# Altium schematic symbol library Library.SchLib: 692 symbols (part 8 of 11)
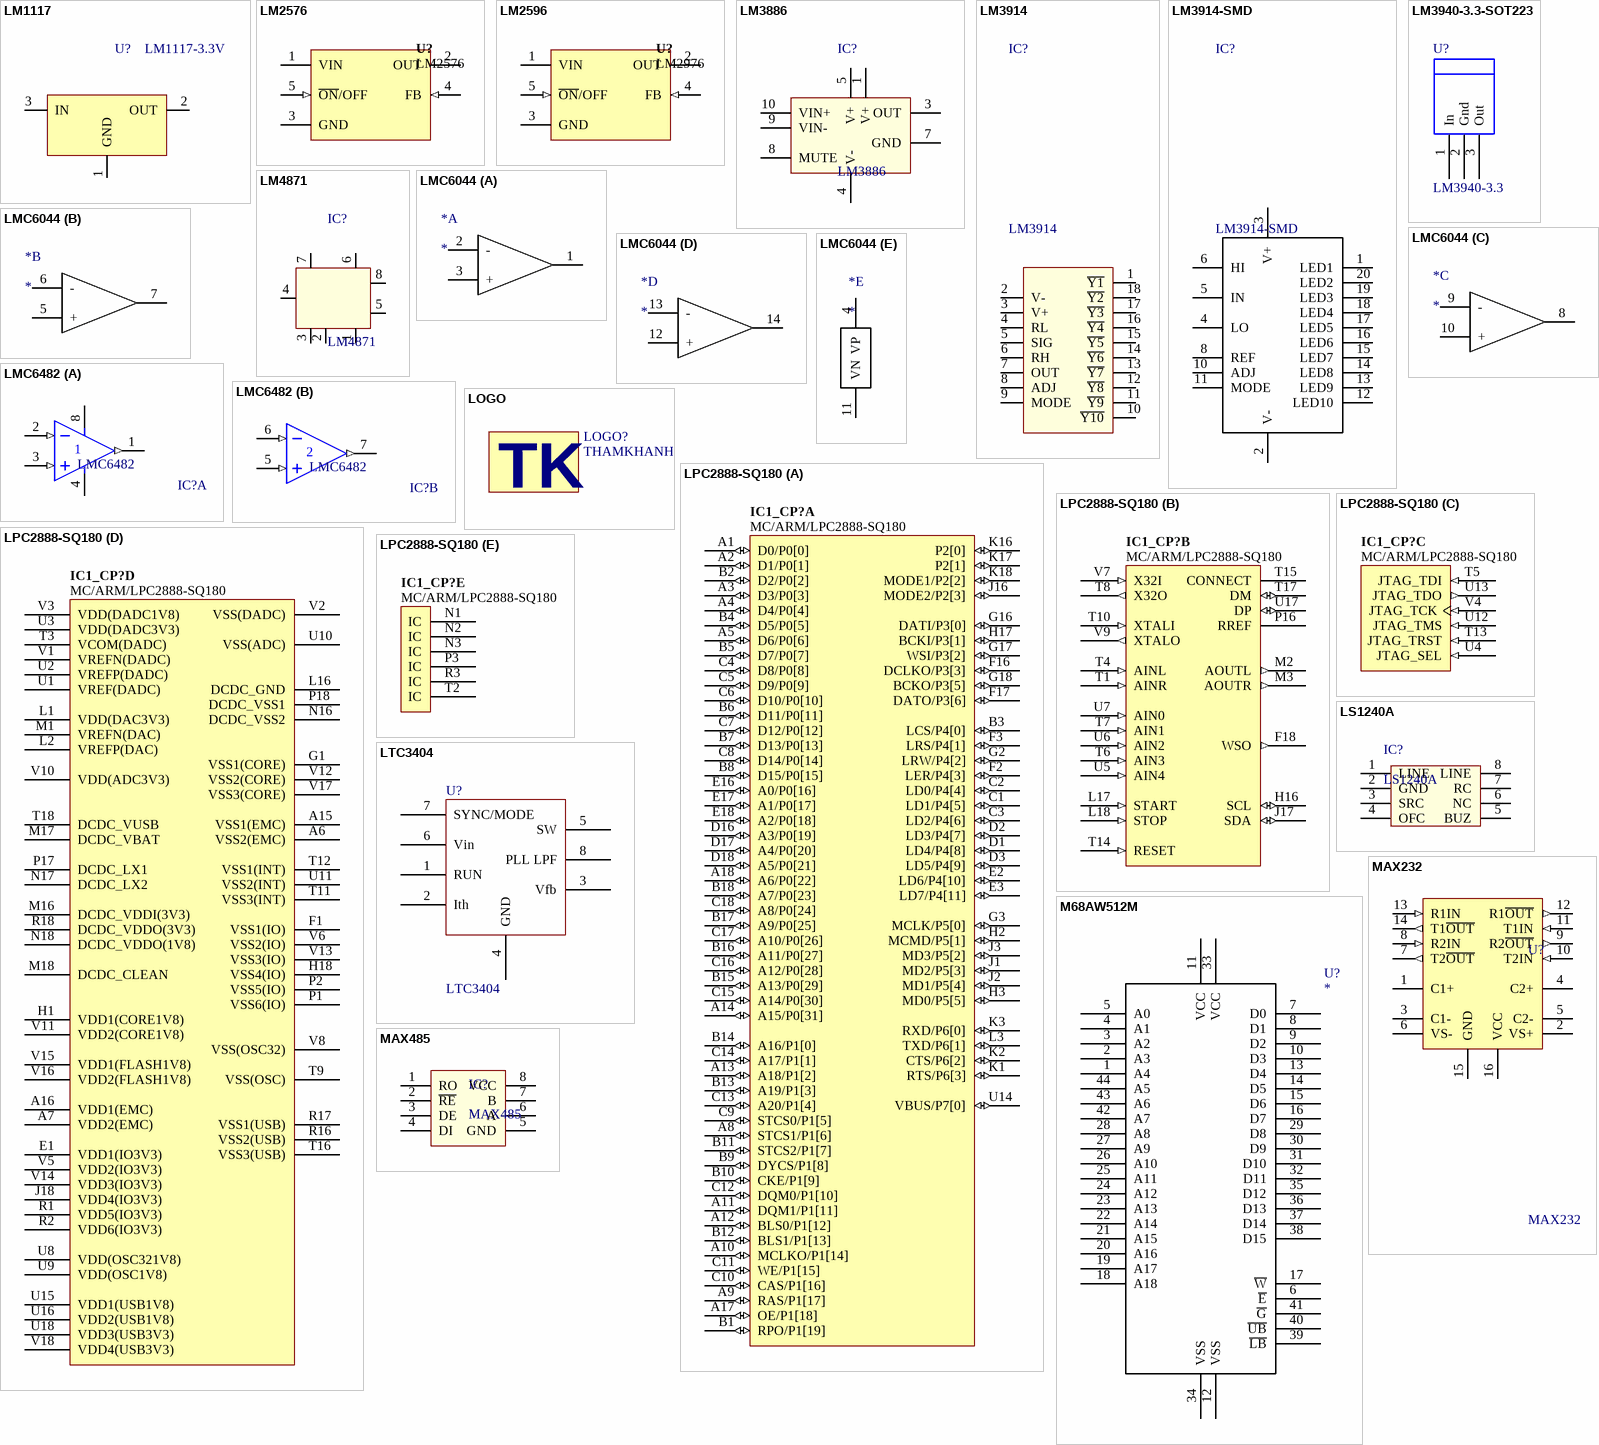
[diagram p53: symbols LM1117 to MAX485]

## LPC2888-SQ180
designator IC1_CP?, comment MC/ARM/LPC2888-SQ180
16/32-bit ARM microcontrollers; 8 kB cache, up to 1 MB flash,  High Speed USB 2.0 device, and SDRAM memory interface; Bit Width: Bits; Max Clock Frequency: Hz; Supply Voltage: mV; Mounting Technology: Surface Mount; Status: Unreleased; Category: IC-MCU
footprint BGA180 (BGA, 180-Leads, Body 10x10mm, Pitch 0.5mm)
part A pins: A1 D0/P0[0] (io) "external memory data bus, low byte (I/O); GPIO pin", A2 D1/P0[1] (io) "external memory data bus, low byte (I/O); GPIO pin", A3 D3/P0[3] (io) "external memory data bus, low byte (I/O); GPIO pin", A4 D4/P0[4] (io) "external memory data bus, low byte (I/O); GPIO pin", A5 D6/P0[6] (io) "external memory data bus, low byte (I/O); GPIO pin", A8 STCS1/P1[6] (io) "chip select, active LOW for static memory bank 1; GPIO pin", A9 RAS/P1[17] (io) "row address strobe, active LOW for SDRAM; GPIO pin", A10 MCLKO/P1[14] (io) "clock for SDRAM and SyncFlash memory; GPIO pin", A11 DQM1/P1[11] (io) "data mask output for D[15:8], active HIGH for SDRAM; GPIO pin", A12 BLS0/P1[12] (io) "byte lane select for D[7:0], active LOW for static memory; GPIO pin", A13 A18/P1[2] (io) "address bus for static memory; GPIO pins", A14 A15/P0[31] (io) "address bus for static memory; GPIO pins", A17 OE/P1[18] (io) "output enable, active LOW for static memory; GPIO pin", A18 A6/P0[22] (io) "address bus for SDRAM and static memory; GPIO pins", B1 RPO/P1[19] (io) "reset power down, active LOW for SyncFlash memory; GPIO pin", B2 D2/P0[2] (io) "external memory data bus, low byte (I/O); GPIO pin", B3 LCS/P4[0] (io) "chip select to LCD device, programmable polarity; 5 V tolerant GPIO pin", B4 D5/P0[5] (io) "external memory data bus, low byte (I/O); GPIO pin", B5 D7/P0[7] (io) "external memory data bus, low byte (I/O); GPIO pin", B6 D11/P0[11] (io) "external memory data bus, high byte (I/O); GPIO pin", B7 D13/P0[13] (io) "external memory data bus, high byte (I/O); GPIO pin", B8 D15/P0[15] (io) "external memory data bus, high byte (I/O); GPIO pin", B9 DYCS/P1[8] (io) "chip select, active LOW for SDRAM; GPIO pin", B10 CKE/P1[9] (io) "clock enable; active HIGH for SDRAM; GPIO pin", B11 STCS2/P1[7] (io) "chip select, active LOW for static memory bank 2; GPIO pin", B12 BLS1/P1[13] (io) "byte lane select for D[15:8], active LOW for static memory; GPIO pin", B13 A19/P1[3] (io) "address bus for static memory; GPIO pins", B14 A16/P1[0] (io) "address bus for static memory; GPIO pins", B15 A13/P0[29] (io) "address bus for SDRAM and static memory; GPIO pins", B16 A11/P0[27] (io) "address bus for SDRAM and static memory; GPIO pins", B17 A9/P0[25] (io) "address bus for SDRAM and static memory; GPIO pins", B18 A7/P0[23] (io) "address bus for SDRAM and static memory; GPIO pins", C1 LD1/P4[5] (io) "data bus to/from LCD (I/O) or 5 V tolerant GPIO pin", C2 LD0/P4[4] (io) "data bus to/from LCD (I/O) or 5 V tolerant GPIO pin", C3 LD2/P4[6] (io) "data bus to/from LCD (I/O) or 5 V tolerant GPIO pin", C4 D8/P0[8] (io) "external memory data bus, high byte (I/O); GPIO pin", C5 D9/P0[9] (io) "external memory data bus, high byte (I/O); GPIO pin", C6 D10/P0[10] (io) "external memory data bus, high byte (I/O); GPIO pin", C7 D12/P0[12] (io) "external memory data bus, high byte (I/O); GPIO pin", C8 D14/P0[14] (io) "external memory data bus, high byte (I/O); GPIO pin", C9 STCS0/P1[5] (io) "chip select, active LOW for static memory bank 0; GPIO pin", C10 CAS/P1[16] (io) "column address strobe, active LOW for SDRAM; GPIO pin", C11 WE/P1[15] (io) "write enable, active LOW for SDRAM and static memory; GPIO pin", C12 DQM0/P1[10] (io) "data mask output for D[7:0], active HIGH for SDRAM; GPIO pin", C13 A20/P1[4] (io) "address bus for static memory; GPIO pins", C14 A17/P1[1] (io) "address bus for static memory; GPIO pins", C15 A14/P0[30] (io) "address bus for SDRAM and static memory; GPIO pins", C16 A12/P0[28] (io) "address bus for SDRAM and static memory; GPIO pins", C17 A10/P0[26] (io) "address bus for SDRAM and static memory; GPIO pins", C18 A8/P0[24] (io) "address bus for SDRAM and static memory; GPIO pins", D1 LD4/P4[8] (io) "data bus to/from LCD (I/O) or 5 V tolerant GPIO pin", D2 LD3/P4[7] (io) "data bus to/from LCD (I/O) or 5 V tolerant GPIO pin", D3 LD5/P4[9] (io) "data bus to/from LCD (I/O) or 5 V tolerant GPIO pin", D16 A3/P0[19] (io) "address bus for SDRAM and static memory; GPIO pins", D17 A4/P0[20] (io) "address bus for SDRAM and static memory; GPIO pins", D18 A5/P0[21] (io) "address bus for SDRAM and static memory; GPIO pins", E2 LD6/P4[10] (io) "data bus to/from LCD (I/O) or 5 V tolerant GPIO pin", E3 LD7/P4[11] (io) "data bus to/from LCD (I/O) or 5 V tolerant GPIO pin", E16 A0/P0[16] (io) "address bus for SDRAM and static memory; GPIO pins", E17 A1/P0[17] (io) "address bus for SDRAM and static memory; GPIO pins", E18 A2/P0[18] (io) "address bus for SDRAM and static memory; GPIO pins", F2 LER/P4[3] (io) "6800 E or 8080 RDor 5 V tolerant GPIO pin", F3 LRS/P4[1] (io) "‘HIGH?data register select, ‘LOW?instruction register select, or 5 V tolerant GPIO pin", F16 DCLKO/P3[3] (io) "256 ×clock output; 5 V tolerant GPIO pin", F17 DATO/P3[6] (io) "DAO serial data output; 5 V tolerant GPIO pin", G2 LRW/P4[2] (io) "6800 W/Ror 8080 WRor 5 V tolerant GPIO pin", G3 MCLK/P5[0] (io) "MCI clock output; 5 V tolerant GPIO pin", G16 DATI/P3[0] (io) "DAI serial data input; 5 V tolerant GPIO pin", G17 WSI/P3[2] (io) "DAI word select; 5 V tolerant GPIO pin", G18 BCKO/P3[5] (io) "DAO bit clock; 5 V tolerant GPIO pin", H2 MCMD/P5[1] (io) "command (I/O); 5 V tolerant GPIO pin", H3 MD0/P5[5] (io) "data bus from/to MCI/SD card (I/O); 5 V tolerant GPIO pin", H17 BCKI/P3[1] (io) "DAI bit clock; 5 V tolerant GPIO pin", J1 MD2/P5[3] (io) "data bus from/to MCI/SD card (I/O); 5 V tolerant GPIO pin", J2 MD1/P5[4] (io) "data bus from/to MCI/SD card (I/O); 5 V tolerant GPIO pin", J3 MD3/P5[2] (io) "data bus from/to MCI/SD card (I/O); 5 V tolerant GPIO pin", J16 MODE2/P2[3] (io) "start up MODE PIN2 (pull down); 5 V tolerant GPIO pin", K1 RTS/P6[3] (io) "request to send or receive flow control, active LOW; 5 V tolerant GPIO pin", K2 CTS/P6[2] (io) "clear to send or transmit flow control, active LOW; 5 V tolerant GPIO pin", K3 RXD/P6[0] (io) "serial input; 5 V tolerant GPIO pin", K16 P2[0] (io) "5 V tolerant GPIO pin", K17 P2[1] (io) "5 V tolerant GPIO pin", K18 MODE1/P2[2] (io) "start up MODE PIN1 (pull down); 5 V tolerant GPIO pin", L3 TXD/P6[1] (io) "serial output; 5 V tolerant GPIO pin", U14 VBUS/P7[0] (io) "USB supply detection; 5 V tolerant GPIO pin"
part B pins: F18 WSO (out) "DAO word select; 5 V tolerant pin", H16 SCL (io) "serial clock (input/open-drain output); 5 V tolerant pin", J17 SDA (io) "serial data (input/open-drain output); 5 V tolerant pin", L17 START (in) "DC-to-DC converter activation", L18 STOP (in) "DC-to-DC converter deactivation", M2 AOUTL (out) "DAC L analog out", M3 AOUTR (out) "DAC R analog out", P16 RREF (power) "transceiver reference; connect an external 12 k.1? resistor to ground", T1 AINR (in) "analog R input channel", T4 AINL (in) "analog L input channel", T6 AIN3 (in) "multiplexed analog input", T7 AIN1 (in) "multiplexed analog input", T8 X32O (out) "32.768 kHz oscillator output", T10 XTALI (in) "main oscillator input", T14 RESET (in) "master reset, active LOW; 5 V tolerant pin", T15 CONNECT (power) "used for signalling speed capability; for high speed USB, connect an external 1.5 k.resistor to 3.3 V", T17 DM (io) "negative USB data line", U5 AIN4 (in) "multiplexed analog input", U6 AIN2 (in) "multiplexed analog input", U7 AIN0 (in) "multiplexed analog input", U17 DP (io) "positive USB data line", V7 X32I (in) "32.768 kHz oscillator input", V9 XTALO (out) "main oscillator output"
part C pins: T5 JTAG_TDI (in) "JTAG data input (pull-up); 5 V tolerant pin", T13 JTAG_TRST (in) "JTAG reset input (pull-down); 5 V tolerant pin", U4 JTAG_SEL (in) "JTAG selection (pull-down); 5 V tolerant pin", U12 JTAG_TMS (in) "JTAG mode select input (pull-up); 5 V tolerant pin", U13 JTAG_TDO (out) "JTAG data output; 5 V tolerant pin", V4 JTAG_TCK (in) "JTAG reset input (pull-down); 5 V tolerant pin"
part D pins: A6 VSS2(EMC) (power) "ground for external memory controller", A7 VDD2(EMC) (power) "1.8 V or 3.3 V for external memory controller", A15 VSS1(EMC) (power) "ground for external memory controller", A16 VDD1(EMC) (power) "1.8 V or 3.3 V for external memory controller", E1 VDD1(IO3V3) (power) "3.3 V for peripherals", F1 VSS1(IO) (power) "ground for peripherals", G1 VSS1(CORE) (power) "ground for internal RAM and ROM", H1 VDD1(CORE1V8) (power) "1.8 V for internal RAM and ROM", H18 VSS4(IO) (power) "ground for peripherals", J18 VDD4(IO3V3) (power) "3.3 V for peripherals", L1 VDD(DAC3V3) (power) "3.3 V for DAC", L2 VREFP(DAC) (power) "positive reference voltage", L16 DCDC_GND (power) "DC-to-DC converter main ground and substrate", M1 VREFN(DAC) (power) "negative reference voltage", M16 DCDC_VDDI(3V3) (power) "DC/DC1 3.3 V input voltage", M17 DCDC_VBAT (power) "connect to battery +", M18 DCDC_CLEAN (power) "reference circuit ground, not connected to substrate", N16 DCDC_VSS2 (power) "ground for DC/DC2, not connected to substrate", N17 DCDC_LX2 (power) "connect to external coil for DC/DC2", N18 DCDC_VDDO(1V8) (power) "DC/DC2 1.8 V output voltage", P1 VSS6(IO) (power) "ground for peripherals", P2 VSS5(IO) (power) "ground for peripherals", P17 DCDC_LX1 (power) "connect to external coil for DC/DC1", P18 DCDC_VSS1 (power) "ground for DC/DC1, not connected to substrate", R1 VDD5(IO3V3) (power) "3.3 V for peripherals", R2 VDD6(IO3V3) (power) "3.3 V for peripherals", R16 VSS2(USB) (power) "analog ground", R17 VSS1(USB) (power) "analog ground", R18 DCDC_VDDO(3V3) (power) "DC/DC1 3.3 V output voltage", T3 VCOM(DADC) (power) "ADC common reference voltage and analog output reference voltage combined on-chip", T9 VSS(OSC) (power) "ground", T11 VSS3(INT) (power) "ground for other internal blocks", T12 VSS1(INT) (power) "ground for other internal blocks", T16 VSS3(USB) (power) "analog ground", T18 DCDC_VUSB (power) "connect to +5 V pin of USB connector", U1 VREF(DADC) (power) "ADC reference voltage", U2 VREFP(DADC) (power) "ADC positive reference voltage", U3 VDD(DADC3V3) (power) "3.3 V for dual ADC", U8 VDD(OSC321V8) (power) "1.8 V", U9 VDD(OSC1V8) (power) "1.8 V", U10 VSS(ADC) (power) "ground", U11 VSS2(INT) (power) "ground for other internal blocks", U15 VDD1(USB1V8) (power) "analog 1.8 V", U16 VDD2(USB1V8) (power) "analog 1.8 V", U18 VDD3(USB3V3) (power) "analog 3.3 V", V1 VREFN(DADC) (power) "ADC negative reference voltage", V2 VSS(DADC) (power) "ground for dual ADC", V3 VDD(DADC1V8) (power) "1.8 V for dual ADC", V5 VDD2(IO3V3) (power) "3.3 V for peripherals", V6 VSS2(IO) (power) "ground for peripherals", V8 VSS(OSC32) (power) "ground", V10 VDD(ADC3V3) (power) "3.3 V analog supply and reference voltage", V11 VDD2(CORE1V8) (power) "1.8 V for core", V12 VSS2(CORE) (power) "ground for core", V13 VSS3(IO) (power) "ground for peripherals", V14 VDD3(IO3V3) (power) "3.3 V for peripherals", V15 VDD1(FLASH1V8) (power) "1.8 V for internal flash memory", V16 VDD2(FLASH1V8) (power) "1.8 V for internal flash memory", V17 VSS3(CORE) (power) "ground for core, substrate, flash", V18 VDD4(USB3V3) (power) "analog 3.3 V"
part E pins: N1 IC "This pin connected internally and must be left unconnected in an application.", N2 IC "This pin connected internally and must be left unconnected in an application.", N3 IC "This pin connected internally and must be left unconnected in an application.", P3 IC "This pin connected internally and must be left unconnected in an application.", R3 IC "This pin connected internally and must be left unconnected in an application.", T2 IC "This pin connected internally and must be left unconnected in an application."

## LS1240A
designator IC?
Electronic Two-Tone Ringer
footprint DIP8
footprint SO8
pins: 1 LINE, 2 GND, 3 SRC, 4 OFC, 5 BUZ, 6 NC, 7 RC, 8 LINE

## LTC3404
designator U?
SYNCHRONOUS SWITCHER CONTROLLER; Supplier 1: Digi-Key; Supplier Part Number 1: LTC3404EMS8#PBF-ND
footprint MSOP8 (MSOP, 8-Leads, Body 3.00x3.00mm, Pitch 0.65mm, IPC High Density)
footprint DIP8
pins: 1 RUN, 2 Ith, 3 Vfb, 4 GND, 5 SW, 6 Vin, 7 SYNC/MODE, 8 PLL LPF

## M68AW512M
designator U?
512K X 16 ASYNCHRONUS SRAM ST MICROELECTRONICS
footprint TSOP44-II (TSOP-II, 44-Leads, Body 18.41x10.16mm, Pitch 0.80mm, IPC High Density)
pins: 1 A4, 2 A3, 3 A2, 4 A1, 5 A0, 6 ~{E}, 7 D0, 8 D1, 9 D2, 10 D3, 11 VCC, 12 VSS, 13 D4, 14 D5, 15 D6, 16 D7, 17 ~{W}, 18 A18, 19 A17, 20 A16, 21 A15, 22 A14, 23 A13, 24 A12, 25 A11, 26 A10, 27 A9, 28 A8, 29 D8, 30 D9, 31 D10, 32 D11, 33 VCC, 34 VSS, 35 D12, 36 D13, 37 D14, 38 D15, 39 ~{LB}, 40 ~{UB}, 41 ~{G}, 42 A7, 43 A6, 44 A5

## MAX232
designator U?
RS232 LEVEL SHIFTER; Manufacturer Part Number: MAX232DR; Manufacturer: Texas Instruments; Number of Drivers/Receivers: 2/2; Voltage - Supply: 4.5 V ~ 5.5 V; Supplier 1: Digi-Key; Supplier Part Number 1: 296-14619-1-ND; RoHS: RoHS Compliant; Packaging: Cut Tape (CT); Protocol: RS232; Type: Transceiver; Supplier Part Number: 296-14619-1-ND; Supplier: Digi-Key; Category: Integrated Circuits (ICs); Package / Case: 16-SOIC (3.9mm Width)
footprint SO16 (SOIC, 16-Leads, Body 9.90x3.91mm, Pitch 1.27mm, IPC Medium Density)
footprint DIP16
pins: 1 C1+, 2 VS+ (power), 3 C1-, 4 C2+, 5 C2-, 6 VS- (power), 7 T2~{OUT} (out), 8 R2IN (in), 9 R2~{OUT} (out), 10 T2IN (in), 11 T1IN (in), 12 R1~{OUT} (out), 13 R1IN (in), 14 T1~{OUT} (out), 15 GND (power), 16 VCC (power)

## MAX485
designator IC?
RS232 - RS485 (Same sn75176)
footprint DIP8
footprint SO8 (SOIC, 8-Leads, Body 4.9x3.9mm, Pitch 1.27mm, IPC High Density)
pins: 1 RO "Receiver Output", 2 ~{RE} "Receiver Enable Output", 3 DE "Driver Enable Output", 4 DI "Driver Input", 5 GND, 6 A "RI & NoneDO", 7 B "NoneDI", 8 VCC

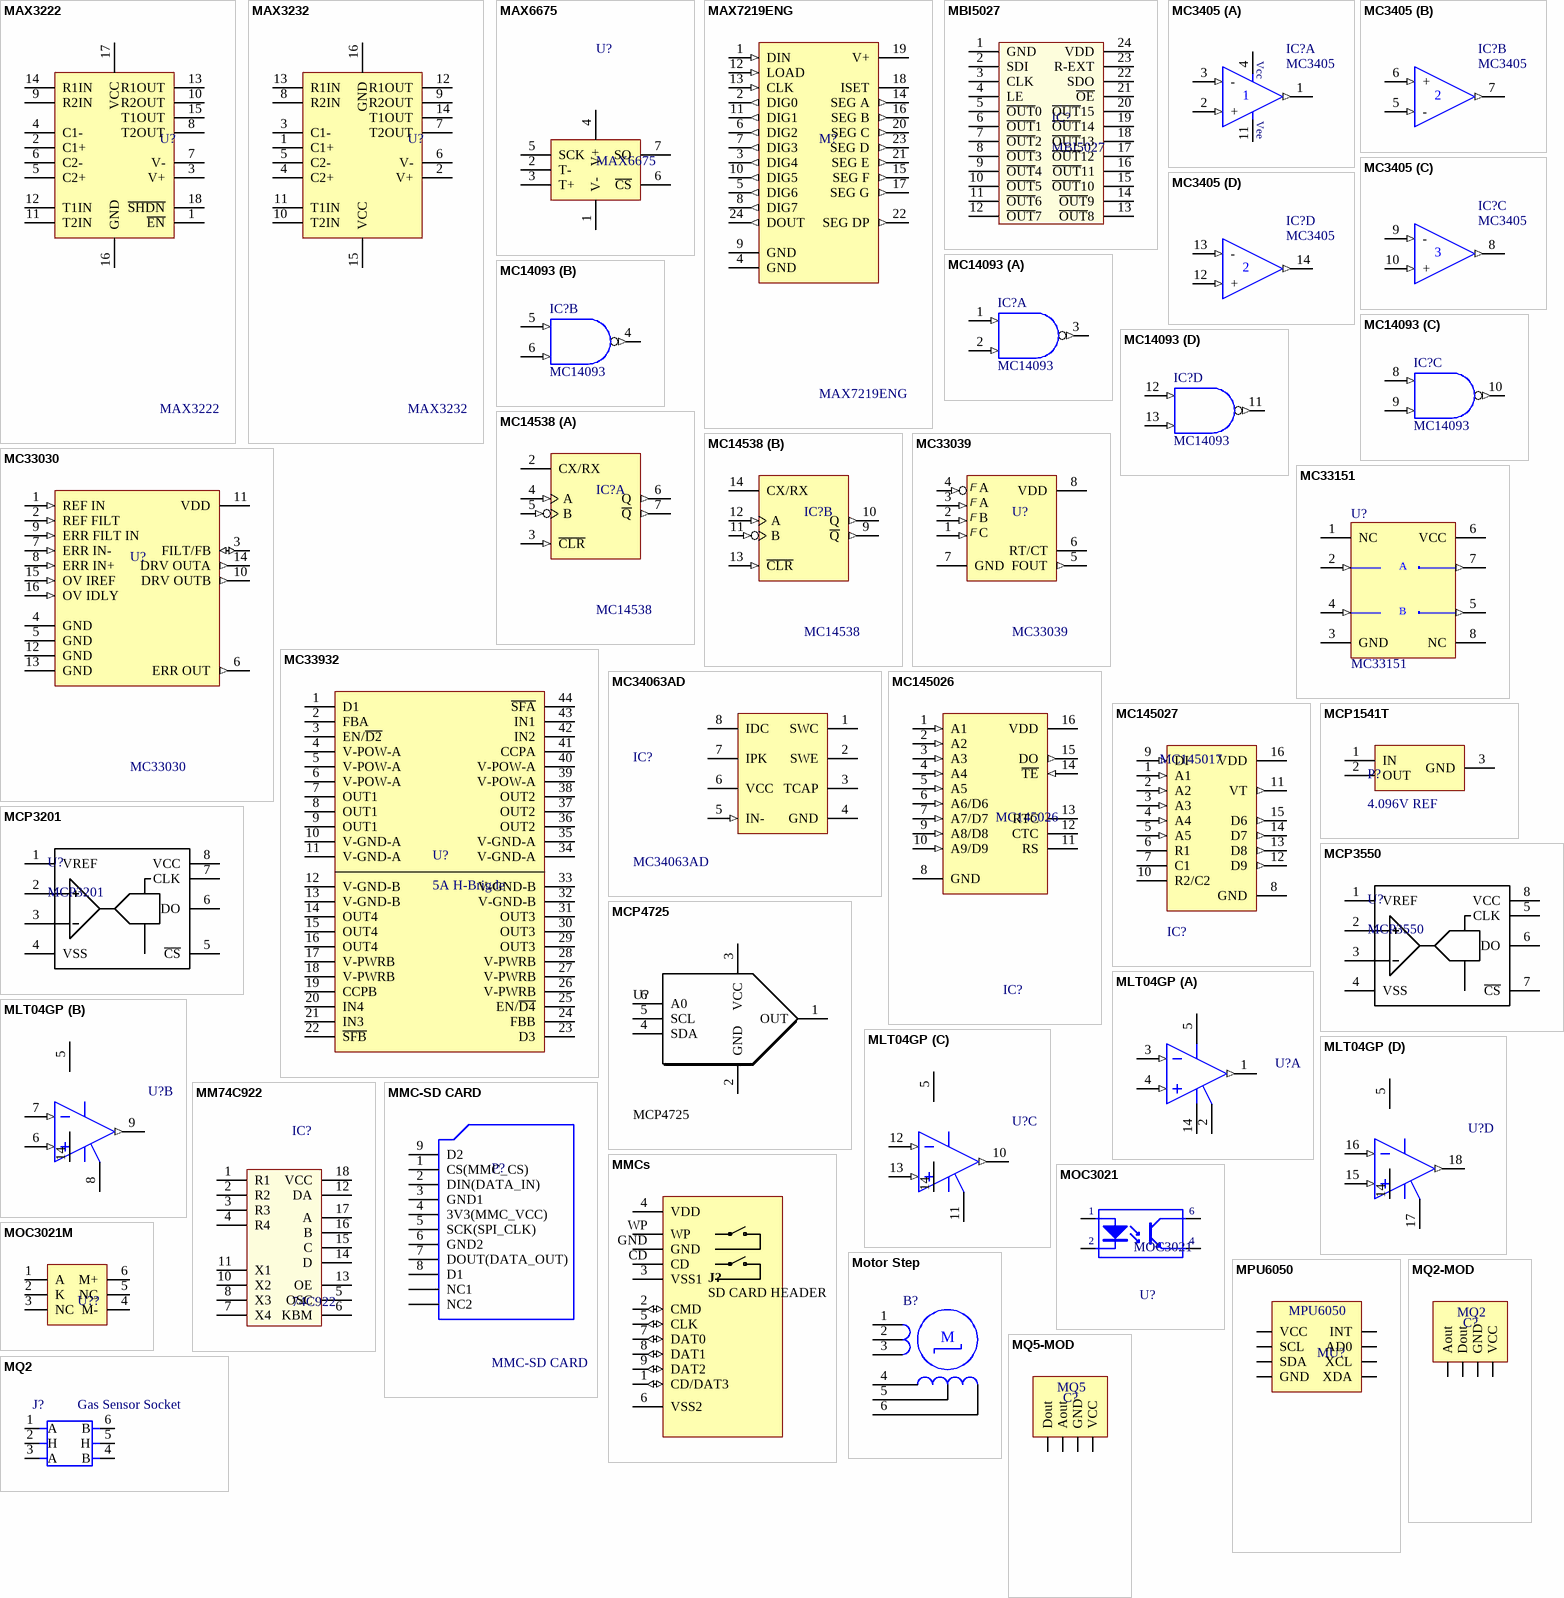
[diagram p34: symbols MAX3222 to MQ5-MOD]

## MAX3222
designator U?
Manufacturer Part Number: MAX232DR; Manufacturer: Texas Instruments; Protocol: RS232; Number of Drivers/Receivers: 2/2; Voltage - Supply: 4.5 V ~ 5.5 V; Supplier 1: Digi-Key; Supplier Part Number 1: 296-14619-1-ND; RoHS: RoHS Compliant; Packaging: Cut Tape (CT); Type: Transceiver; Supplier Part Number: 296-14619-1-ND; Supplier: Digi-Key; Category: Integrated Circuits (ICs); Package / Case: 16-SOIC (3.9mm Width)
footprint DIP18 (DIP; 18 Leads; Row Spacing 7.62 mm; Pitch 2.54 mm)
footprint SO18 (SOIC, 18-Leads, Body 11.50x7.50mm, Pitch 1.27mm, IPC Medium Density)
pins: 1 ~{EN}, 2 C1+ (power), 3 V+, 4 C1-, 5 C2+, 6 C2- (power), 7 V-, 8 T2OUT, 9 R2IN, 10 R2OUT, 11 T2IN, 12 T1IN, 13 R1OUT, 14 R1IN, 15 T1OUT (power), 16 GND (power), 17 VCC (power), 18 ~{SHDN} (power)

## MAX3232
designator U?
Manufacturer Part Number: MAX232DR; Manufacturer: Texas Instruments; Protocol: RS232; Number of Drivers/Receivers: 2/2; Voltage - Supply: 4.5 V ~ 5.5 V; Supplier 1: Digi-Key; Supplier Part Number 1: 296-14619-1-ND; RoHS: RoHS Compliant; Packaging: Cut Tape (CT); Type: Transceiver; Supplier Part Number: 296-14619-1-ND; Supplier: Digi-Key; Category: Integrated Circuits (ICs); Package / Case: 16-SOIC (3.9mm Width)
footprint DIP16
footprint SO16 (SOIC, 16-Leads, Body 9.90x3.91mm, Pitch 1.27mm, IPC Medium Density)
pins: 1 C1+ (power), 2 V+, 3 C1-, 4 C2+, 5 C2- (power), 6 V-, 7 T2OUT, 8 R2IN, 9 R2OUT, 10 T2IN, 11 T1IN, 12 R1OUT, 13 R1IN, 14 T1OUT (power), 15 VCC (power), 16 GND (power)

## MAX6675
designator U?
Half-Bridge Driver
footprint DIP8
footprint SO8 (SOIC, 8-Leads, Body 4.9x3.9mm, Pitch 1.27mm, IPC High Density)
pins: 1 V-, 2 T-, 3 T+, 4 V+, 5 SCK, 6 ~{CS}, 7 SO

## MAX7219ENG
designator M?
Serially Interfaced, 8-Digit LED Display Driver; Published: 16-Jan-2001; LatestRevisionDate: 29-May-2009; LatestRevisionNote: Component Body Added.; DatasheetVersion: Jul-1997; PackageVersion: 1997; PackageReference: NG24A; Publisher: Altium Limited; PackageDescription: DIP, 24-Pin, Row Spacing 7.62 mm, Pitch 2.54 mm; Code_JEDEC: MS-001-AF; ComponentLink1Description: Manufacturer Link; ComponentLink1URL: http://www.maxim-ic.com/; ComponentLink2Description: Datasheet; ComponentLink2URL: http://pdfserv.maxim-ic.com/en/ds/MAX7219-MAX7221.pdf
footprint SO24 (SOP, 24-Leads, Body 15.6x8.1mm, Pitch 1.27mm, IPC Low Density)
footprint DIP24
pins: 1 DIN (in), 2 DIG0 (out), 3 DIG4 (out), 4 GND (power), 5 DIG6 (out), 6 DIG2 (out), 7 DIG3 (out), 8 DIG7 (out), 9 GND (power), 10 DIG5 (out), 11 DIG1 (out), 12 LOAD (in), 13 CLK (in), 14 SEG A (out), 15 SEG F (out), 16 SEG B (out), 17 SEG G (out), 18 ISET, 19 V+ (power), 20 SEG C (out), 21 SEG E (out), 22 SEG DP (out), 23 SEG D (out), 24 DOUT (out)

## MBI5027
designator IC?
16 bit Constant Current LED; Creat by: VanDungEvn@Gmail.com; Compoment same: SM16126
footprint SO24 (SOIC, 24-Leads, Body 15.30x7.50mm, Pitch 1.27mm, IPC Medium Density)
footprint DIP24
pins: 1 GND, 2 SDI, 3 CLK, 4 LE, 5 ~{OUT}0, 6 ~{OUT}1, 7 ~{OUT}2, 8 ~{OUT}3, 9 ~{OUT}4, 10 ~{OUT}5, 11 ~{OUT}6, 12 ~{OUT}7, 13 ~{OUT}8, 14 ~{OUT}9, 15 ~{OUT}10, 16 ~{OUT}11, 17 ~{OUT}12, 18 ~{OUT}13, 19 ~{OUT}14, 20 ~{OUT}15, 21 ~{OE}, 22 SDO, 23 R-EXT, 24 VDD

## MC3405
designator IC?
Dual operation Ampllifier and dual comparator; Value: LM324
footprint DIP14
part A pins: 1 OUT (out), 2 + (in), 3 - (in), 4 V+ (power), 11 V- (power)
part B pins: 5 - (in), 6 + (in), 7 OUT (out)
part C pins: 8 OUT (out), 9 - (in), 10 + (in)
part D pins: 12 + (in), 13 - (in), 14 OUT (out)
part A text: Vcc; Vee

## MC14093
designator IC?
Quad 2-Input NAND Schmitt Trigger; Value: MC14093
footprint DIP14
footprint SO14
footprint TSSOP14 (TSSOP, 14-Leads, Body 5.00x4.40mm, Pitch 0.65mm, IPC High Density)
pins on every part: 7 GND (power) hidden to GND, 14 VDD (power) hidden to VDD
part A pins: 1 A (in), 2 B (in), 3 ~{Y} (out)
part B pins: 4 ~{Y} (out), 5 A (in), 6 B (in)
part C pins: 8 A (in), 9 B (in), 10 ~{Y} (out)
part D pins: 11 ~{Y} (out), 12 A (in), 13 B (in)

## MC14538
designator IC?
Dual Precision Retriggerable/Resettable Monostable Multivibrator; Value: MC14538
footprint DIP16
footprint SO16 (SOIC, 16-Leads, Body 9.90x3.91mm, Pitch 1.27mm, IPC Medium Density)
footprint SO16L (SOIC, 16-Leads, Body 10.30x7.50mm, Pitch 1.27mm, IPC Medium Density)
footprint TSSOP16 (TSSOP, 16-Leads, Body 5.10x4.40mm, Pitch 0.65mm, IPC High Density)
pins on every part: 1 GND (power) hidden to GND, 8 GND (power) hidden to GND, 15 GND (power) hidden to GND, 16 VDD (power) hidden to VDD
part A pins: 2 CX/RX, 3 ~{CLR} (in), 4 A (in), 5 B (in), 6 Q (out), 7 ~{Q} (out)
part B pins: 9 ~{Q} (out), 10 Q (out), 11 B (in), 12 A (in), 13 ~{CLR} (in), 14 CX/RX

## MC33030
designator U?
DC Servo Motor Controller/Driver; Published: 17-Jul-2002; LatestRevisionDate: 13-Apr-2006; LatestRevisionNote: IPC-7351 Footprint Added.; DatasheetVersion: 1996; PackageVersion: 1996; PackageReference: 751G-02; Publisher: Altium Limited; PackageDescription: 16-Pin Small Outline Integrated Circuit 1.27 mm Pitch; ComponentLink1Description: Manufacturer Link; ComponentLink1URL: http://www.onsemi.com/site/products/parametrics/0,4446,407,00.html; ComponentLink2Description: Datasheet; ComponentLink2URL: http://www.onsemi.com/pub/Collateral/MC33030-D.PDF
footprint SO16L (SOIC, 16-Leads, Body 10.30x7.50mm, Pitch 1.27mm, IPC Medium Density)
footprint DIP16
pins: 1 REF IN (in), 2 REF FILT (in), 3 FILT/FB (io), 4 GND (power), 5 GND (power), 6 ERR OUT (out), 7 ERR IN- (in), 8 ERR IN+ (in), 9 ERR FILT IN (in), 10 DRV OUTB (out), 11 VDD (power), 12 GND (power), 13 GND (power), 14 DRV OUTA (out), 15 OV IREF (in), 16 OV IDLY (in)

## MC33039
designator U?
Closed-Loop Brushless Motor Adapter; Published: 17-Jul-2002; LatestRevisionDate: 06-Jun-2005; LatestRevisionNote: Stylized 3D Model Added.; DatasheetVersion: 1988; PackageReference: 626-05; Publisher: Altium Limited; PackageDescription: DIP; 8 Leads; Row Spacing 7.62 mm; Pitch 2.54 mm; ComponentLink1Description: Manufacturer Link; ComponentLink1URL: http://www.onsemi.com/site/products/parametrics/0,4446,407,00.html; ComponentLink2Description: Datasheet; ComponentLink2URL: http://www.onsemi.com/pub/Collateral/MC33039-D.PDF
footprint DIP8 (DIP, 8-Leads, Row Spacing 7.62mm, Pitch 2.54mm, Body 9.91x6.73mm)
pins: 1 phi C (in), 2 phi B (in), 3 phi A (in), 4 phi ~{A} (in), 5 FOUT (out), 6 RT/CT, 7 GND (power), 8 VDD (power)
text: F; A; B; C

## MC33151
designator U?
High Speed Dual MOSFET Driver; Published: 17-Jul-2002; LatestRevisionDate: 13-Apr-2006; LatestRevisionNote: IPC-7351 Footprint Added.; DatasheetVersion: Apr-2000; PackageVersion: Sep-1999; PackageReference: 751-06; Publisher: Altium Limited; PackageDescription: 8-Pin Small Outline Integrated Circuit 1.27 mm Pitch; Code_JEDEC: MS-012-AA; Code_IPC: SOIC127P600-8; ComponentLink1Description: Manufacturer Link; ComponentLink1URL: http://www.onsemi.com/site/products/parametrics/0,4446,388,00.html; ComponentLink2Description: Datasheet; ComponentLink2URL: http://www.onsemi.com/pub/Collateral/MC34151-D.PDF
footprint DIP8 (DIP, 8-Leads, Row Spacing 7.62mm, Pitch 2.54mm, Body 9.91x6.73mm)
footprint SO8 (SOIC, 8-Leads, Body 4.9x3.9mm, Pitch 1.27mm, IPC High Density)
pins: 1 NC, 2 INA (in), 3 GND (power), 4 INB (in), 5 ~{OUTB} (out), 6 VCC (power), 7 ~{OUTA} (out), 8 NC
text: A; B

## MC33932
designator U?, comment 5A H-Brigde
footprint HSOP44 (HSOP, 44-Leads, Body 16.00x11.00mm, Pitch 0.65mm, IPC High Density)
pins: 1 D1, 2 FBA, 3 EN/~{D2}, 4 V-POW-A, 5 V-POW-A, 6 V-POW-A, 7 OUT1, 8 OUT1, 9 OUT1, 10 V-GND-A, 11 V-GND-A, 12 V-GND-B, 13 V-GND-B, 14 OUT4, 15 OUT4, 16 OUT4, 17 V-PWRB, 18 V-PWRB, 19 CCPB, 20 IN4, 21 IN3, 22 ~{SFB}, 23 D3, 24 FBB, 25 EN/~{D4}, 26 V-PWRB, 27 V-PWRB, 28 V-PWRB, 29 OUT3, 30 OUT3, 31 OUT3, 32 V-GND-B, 33 V-GND-B, 34 V-GND-A, 35 V-GND-A, 36 OUT2, 37 OUT2, 38 OUT2, 39 V-POW-A, 40 V-POW-A, 41 CCPA, 42 IN2, 43 IN1, 44 ~{SFA}

## MC34063AD
designator IC?
DC-to-DC Converter Control Circuit; Published: 15-Apr-2002; LatestRevisionDate: 13-Apr-2006; LatestRevisionNote: IPC-7351 Footprint Added.; DatasheetVersion: 1996; PackageVersion: 1998; PackageReference: 751-05; Publisher: Altium Limited; PackageDescription: 8-Pin Small Outline Integrated Circuit 1.27 mm Pitch; Code_JEDEC: MS-012-AA; Code_IPC: SOIC127P600-8; ComponentLink1Description: Manufacturer Link; ComponentLink1URL: http://www.onsemi.com/site/products/taxonomy/0,4438,503,00.html; ComponentLink2Description: Datasheet; ComponentLink2URL: http://www.onsemi.com/pub/Collateral/MC34063A-D.PDF
footprint SO8
footprint DIP8
pins: 1 SWC, 2 SWE, 3 TCAP, 4 GND (power), 5 IN- (in), 6 VCC (power), 7 IPK, 8 IDC (oc)

## MC145026
designator IC?
Encoder Remote; Value: MC145026
footprint DIP16
pins: 1 A1 (in), 2 A2 (in), 3 A3 (in), 4 A4 (in), 5 A5 (in), 6 A6/D6 (in), 7 A7/D7 (in), 8 GND (power), 9 A8/D8 (in), 10 A9/D9 (in), 11 RS, 12 CTC, 13 RTC, 14 ~{TE} (in), 15 DO (out), 16 VDD (power)

## MC145027
designator IC?, comment MC145017
Decoder Remote; Value: MC145027
footprint DIP16
pins: 1 A1 (in), 2 A2 (in), 3 A3 (in), 4 A4 (in), 5 A5 (in), 6 R1, 7 C1, 8 GND (power), 9 DI (in), 10 R2/C2, 11 VT (out), 12 D9 (out), 13 D8 (out), 14 D7 (out), 15 D6 (out), 16 VDD (power)

## MCP1541T
designator P?, comment 4.096V REF
footprint SOT233
pins: 1 IN, 2 OUT, 3 GND

## MCP3201
designator U?
12 BIT A/D CONVERTOR; Manufacturer Part Number: MCP3201-CI/SN; Manufacturer: Microchip Technology; Data Interface: Serial, SPI™; Number of Inputs and Type: 1 Single-Ended, Unipolar; Sampling Rate (Per Second): 100k; Number of Converters: 1; Number of Bits: 12; Voltage Supply Source: Single Supply; Supplier 1: Digi-Key; Supplier Part Number 1: MCP3201-CI/SN-ND; RoHS: RoHS Compliant; Power Dissipation (Max): -; Mounting Type: Surface Mount; Supplier: Digi-Key; Operating Temperature: -40°C ~ 85°C; Category: Integrated Circuits (ICs); Supplier Part Number: MCP3201-CI/SN-ND; Supplier Device Package: *; Packaging: Tube; Package / Case: 8-SOIC (3.9mm Width)
footprint SO8
footprint DIP8
pins: 1 VREF, 2, 3, 4 VSS, 5 ~{CS}, 6 DO, 7 CLK, 8 VCC

## MCP3550
designator U?
22 BIT A/D CONVERTOR; Manufacturer: Microchip Technology; Manufacturer Part Number: MCP3550-60E/SN; Voltage Supply Source: Single Supply; Number of Bits: 22; Sampling Rate (Per Second): 15; Number of Converters: 1; Data Interface: Serial, SPI™; Number of Inputs and Type: 1 Differential, Unipolar; Supplier 1: Digi-Key; Supplier Part Number 1: MCP3550-60E/SN-ND; Power Dissipation (Max): -; Supplier Part Number: MCP3550-60E/SN-ND; Packaging: Tube; Supplier Device Package: *; Supplier: Digi-Key; Operating Temperature: -40°C ~ 125°C; Package / Case: 8-SOIC (3.9mm Width); Mounting Type: Surface Mount; RoHS: RoHS Compliant
footprint SO8
footprint DIP8
pins: 1 VREF, 2, 3, 4 VSS, 5 CLK, 6 DO, 7 ~{CS}, 8 VCC

## MCP4725
designator U?
12 BIT DAC WITH I2C INTERFACE
footprint SOT23-6
footprint DIP6
pins: 1 OUT, 2 GND, 3 VCC, 4 SDA, 5 SCL, 6 A0

## MLT04GP
designator U?
Four-Channel, Four-Quadrant Analog Multiplier; Published: 8-Jun-2000; LatestRevisionDate: 04-Mar-2005; LatestRevisionNote: Stylized 3D Model Added.; DatasheetVersion: REV.B 1998; PackageReference: N-18; Publisher: Altium Limited; PackageDescription: DIP; 18 Leads; Row Spacing 7.62 mm; Pitch 2.54 mm; ComponentLink1Description: Manufacturer Link; ComponentLink1URL: http://www.analog.com/en/prod/0%2C2877%2CMLT04%2C00.html; ComponentLink2Description: Datasheet; ComponentLink2URL: http://www.analog.com/UploadedFiles/Data_Sheets/431190299mlt04.pdf
footprint DIP18 (DIP; 18 Leads; Row Spacing 7.62 mm; Pitch 2.54 mm)
pins on every part: 5 +V (power), 14 V- (power)
part A pins: 1 W (out), 2 GND (power), 3 X (in), 4 Y (in)
part B pins: 6 Y (in), 7 X (in), 8 GND (power), 9 W (out)
part C pins: 10 W (out), 11 GND (power), 12 X (in), 13 Y (in)
part D pins: 15 Y (in), 16 X (in), 17 GND (power), 18 W (out)

## MM74C922
designator IC?, comment 74C922
16 Key Encoder With Debouncer; Value: MM74C922
footprint DIP18 (DIP; 18 Leads; Row Spacing 7.62 mm; Pitch 2.54 mm)
pins: 1 R1, 2 R2, 3 R3, 4 R4, 5 OSC, 6 KBM, 7 X4, 8 X3, 9 GND hidden to GND, 10 X2, 11 X1, 12 DA, 13 OE, 14 D, 15 C, 16 B, 17 A, 18 VCC

## MMC-SD CARD
designator P?
Header, 6-Pin; LatestRevisionDate: 17-Jul-2002; LatestRevisionNote: Re-released for DXP Platform.; Publisher: Altium Limited
footprint MMC
pins: 1 CS(MMC_CS), 2 DIN(DATA_IN), 3 GND1, 4 3V3(MMC_VCC), 5 SCK(SPI_CLK), 6 GND2, 7 DOUT(DATA_OUT), 8 D1, 9 D2, NC1, NC2
2 alternate drawings of the same symbol

## MMCs
designator J?, comment SD CARD HEADER
Secure Digital Card Socket; Max Current: mA; Connector type: Header; Mounting Technology: Surface Mount; Status: Production; Category: Connector
footprint mmc1 (SD Card socket)
pins: 1 CD/DAT3 (io), 2 CMD (io), 3 VSS1 (power), 4 VDD (power), 5 CLK (io), 6 VSS2 (power), 7 DAT0 (io), 8 DAT1 (io), 9 DAT2 (io), CD (oc), GND (power), WP (oc)

## MOC3021
designator U?
Single Opto; Value: MOC3021
footprint DIP6
footprint SO6
pins: 1 A "Anode", 2 K "Cathode", 4 E "Emitter", 6 C "Collector"

## MOC3021M
designator U??  (value not drawn)
footprint DIP6
footprint SO6
pins: 1 A, 2 K, 3 NC, 4 M-, 5 NC, 6 M+

## Motor Step
designator B?
Motor Stepper; Published: 24-Mar-1999; LatestRevisionDate: 17-Jul-2002; LatestRevisionNote: Re-released for DXP Platform.; PackageReference: DIP-6; Publisher: Altium Limited; Code_JEDEC: MO-001-AM
footprint HDR6 (Connector; Header; 6 Position)
pins: 1 1A, 2, 3, 4, 5, 6
text: M

## MPU6050
designator MU?
Manufacturer: W¨¹rth Elektronik eiSos GmbH; partNo: 613004143121; ComponentLink1 Description: Manufacturer; ComponentLink2 Description: Datasheet; NoPins: 04; Created Date: 29 March 2013; ComponentLink1URL: http://www.we-online.com; ComponentLink2URL: http://katalog.we-online.de/em/datasheet/6130xx143121.pdf; Created by: Karrer Zheng
footprint MPU6050
pins: 1 VCC, 2 GND, 3 SCL, 4 SDA, 5 XDA, 6 XCL, 7 AD0, 8 INT

## MQ2
designator J?, comment Gas Sensor Socket
footprint MQ2 (6P-D17.6X9.8H)
pins: 1 A, 2 H, 3 A, 4 B, 5 H, 6 B

## MQ2-MOD
designator C?
Manufacturer: W¨¹rth Elektronik eiSos GmbH; partNo: 613004143121; ComponentLink1 Description: Manufacturer; ComponentLink2 Description: Datasheet; NoPins: 04; Created Date: 29 March 2013; ComponentLink1URL: http://www.we-online.com; ComponentLink2URL: http://katalog.we-online.de/em/datasheet/6130xx143121.pdf; Created by: Karrer Zheng
footprint MQ2-MODULE
footprint JP4-C1T (4 row, straight, gold plating)
pins: 1 Aout, 2 Dout, 3 GND, 4 VCC
text: MQ2

## MQ5-MOD
designator C?
Manufacturer: W¨¹rth Elektronik eiSos GmbH; partNo: 613004143121; ComponentLink1 Description: Manufacturer; ComponentLink2 Description: Datasheet; NoPins: 04; Created Date: 29 March 2013; ComponentLink1URL: http://www.we-online.com; ComponentLink2URL: http://katalog.we-online.de/em/datasheet/6130xx143121.pdf; Created by: Karrer Zheng
footprint MQ5-MODULE
footprint JP4-C1T (4 row, straight, gold plating)
pins: 1 Dout, 2 Aout, 3 GND, 4 VCC
text: MQ5

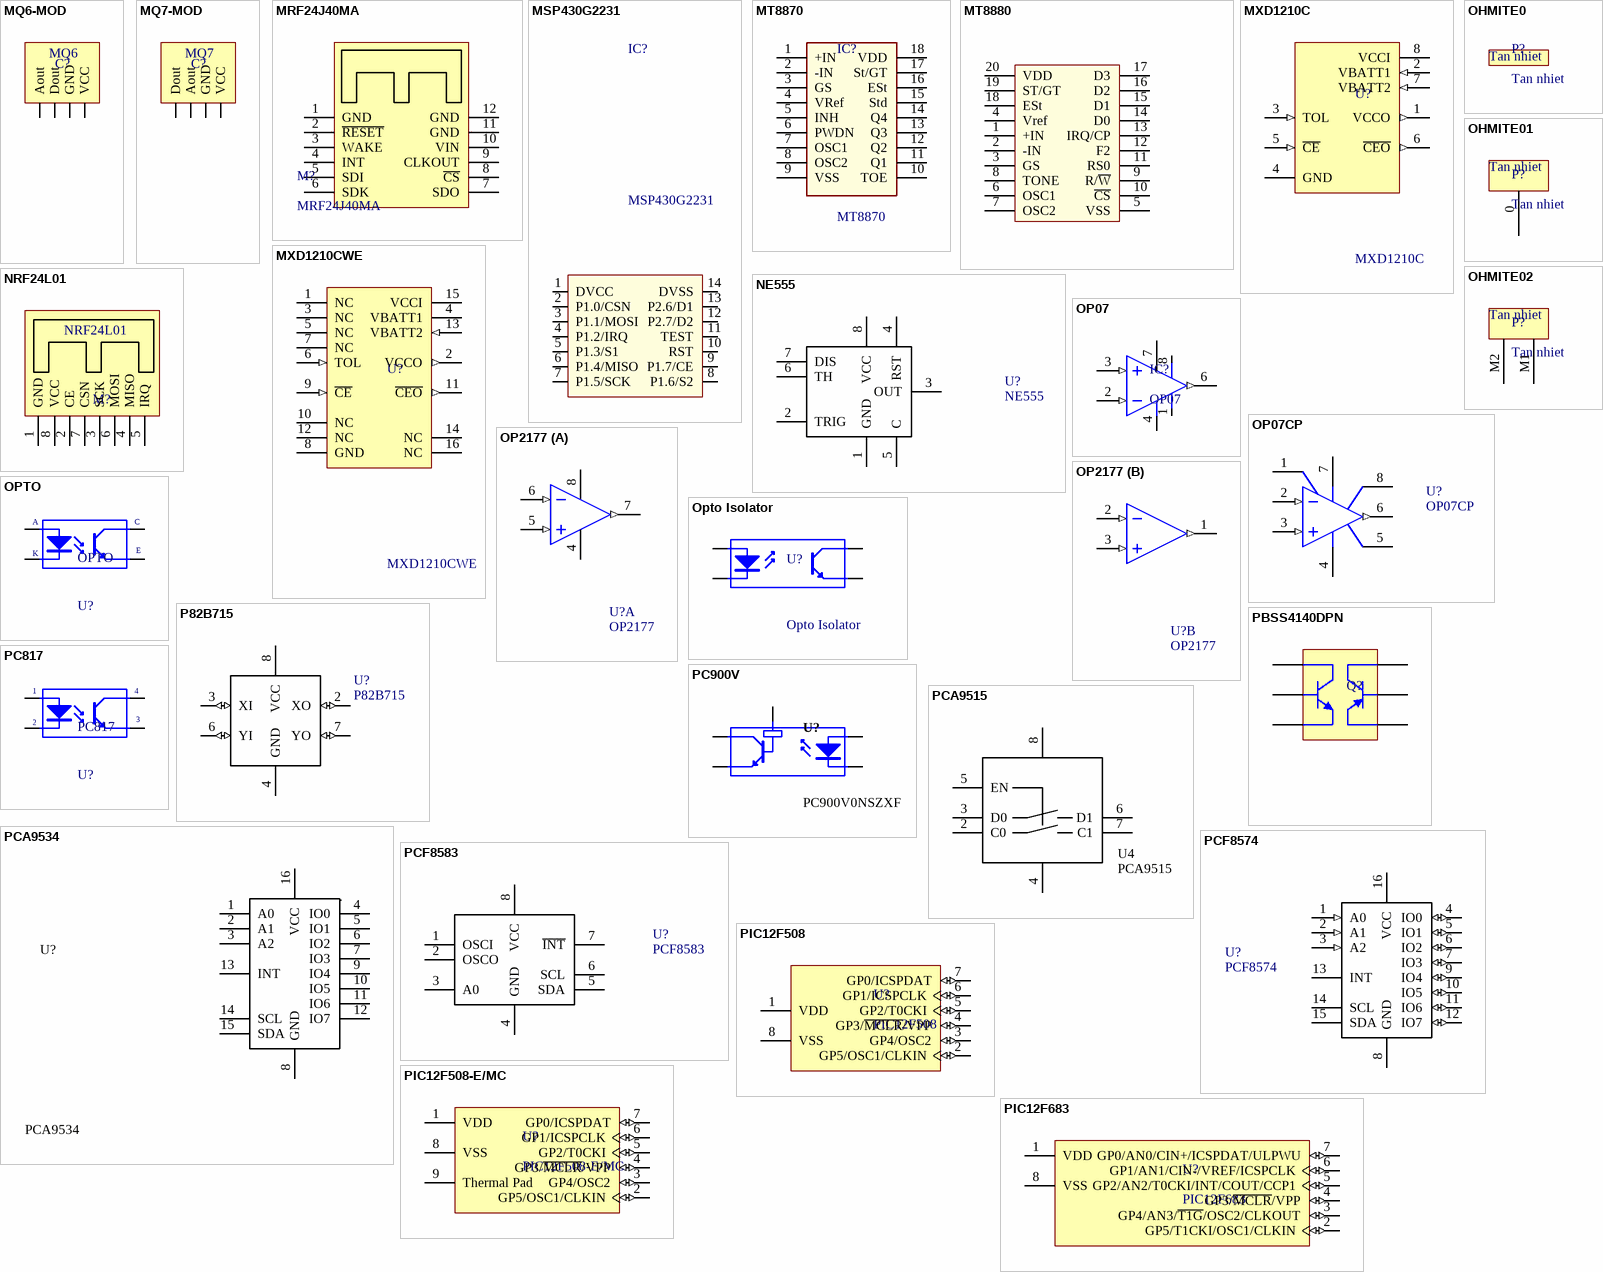
[diagram p35: symbols MQ6-MOD to PIC12F683]

## MQ6-MOD
designator C?
Manufacturer: W¨¹rth Elektronik eiSos GmbH; partNo: 613004143121; ComponentLink1 Description: Manufacturer; ComponentLink2 Description: Datasheet; NoPins: 04; Created Date: 29 March 2013; ComponentLink1URL: http://www.we-online.com; ComponentLink2URL: http://katalog.we-online.de/em/datasheet/6130xx143121.pdf; Created by: Karrer Zheng
footprint MQ6-MODULE
footprint JP4-C1T (4 row, straight, gold plating)
pins: 1 Aout, 2 Dout, 3 GND, 4 VCC
text: MQ6

## MQ7-MOD
designator C?
Manufacturer: W¨¹rth Elektronik eiSos GmbH; partNo: 613004143121; ComponentLink1 Description: Manufacturer; ComponentLink2 Description: Datasheet; NoPins: 04; Created Date: 29 March 2013; ComponentLink1URL: http://www.we-online.com; ComponentLink2URL: http://katalog.we-online.de/em/datasheet/6130xx143121.pdf; Created by: Karrer Zheng
footprint MQ6-MODULE
footprint JP4-C1T (4 row, straight, gold plating)
pins: 1 Dout, 2 Aout, 3 GND, 4 VCC
text: MQ7

## MRF24J40MA
designator M?
Microchip Zigbee Module
footprint MRF24J40MA (Microchip Zigbee Module)
pins: 1 GND, 2 ~{RESET}, 3 WAKE, 4 INT, 5 SDI, 6 SDK, 7 SDO, 8 ~{CS}, 9 CLKOUT, 10 VIN, 11 GND, 12 GND

## MSP430G2231
designator IC?
Value: 16F88; Value: DIP18
footprint DIP14
footprint TSSOP14 (TSSOP, 14-Leads, Body 5.00x4.40mm, Pitch 0.65mm, IPC High Density)
pins: 1 DVCC, 2 P1.0/CSN, 3 P1.1/MOSI, 4 P1.2/IRQ, 5 P1.3/S1, 6 P1.4/MISO, 7 P1.5/SCK, 8 P1.6/S2, 9 P1.7/CE, 10 RST, 11 TEST, 12 P2.7/D2, 13 P2.6/D1, 14 DVSS

## MT8870
designator IC?
DTMF RECEIVER IC MT8870 TESTER; Value: MT8068
footprint DIP18 (DIP; 18 Leads; Row Spacing 7.62 mm; Pitch 2.54 mm)
footprint SO18 (SOIC, 18-Leads, Body 11.6x7.5mm, Pitch 1.27mm, IPC High Density)
pins: 1 +IN, 2 -IN, 3 GS, 4 VRef, 5 INH, 6 PWDN, 7 OSC1, 8 OSC2, 9 VSS, 10 TOE, 11 Q1, 12 Q2, 13 Q3, 14 Q4, 15 Std, 16 ESt, 17 St/GT, 18 VDD

## MT8880
designator IC?, comment MT8880C
Integrated DTMF Transceiver; Value: DIP20; Value: MT8880C
footprint DIP20 (DIP 20, 20 PIN, W 300mil, Pin to pin 100mil)
footprint SO20 (SOIC, 20-Leads, Body 12.60x7.50mm, Pitch 1.27mm, IPC Medium Density)
pins: 1 +IN, 2 -IN, 3 GS, 4 Vref, 5 VSS, 6 OSC1, 7 OSC2, 8 TONE, 9 R/~{W}, 10 ~{CS}, 11 RS0, 12 F2, 13 IRQ/CP, 14 D0, 15 D1, 16 D2, 17 D3, 18 ESt, 19 ST/GT, 20 VDD

## MXD1210C
designator U?
Nonvolatile RAM Controller; Published: 16-Jan-2001; LatestRevisionDate: 29-May-2009; LatestRevisionNote: Component Body Added.; DatasheetVersion: Mar-1996; PackageVersion: RevB, 21-0043; PackageReference: PA8; Publisher: Altium Limited; PackageDescription: DIP, 8-Pin, Row Spacing 7.62 mm, Pitch 2.54 mm; Code_JEDEC: MS-001-AB; ComponentLink1Description: Manufacturer Link; ComponentLink1URL: http://www.maxim-ic.com/; ComponentLink2Description: Datasheet; ComponentLink2URL: http://pdfserv.maxim-ic.com/en/ds/MXD1210.pdf
footprint DIP8
footprint SO8 (SOIC, 8-Leads, Body 4.9x3.9mm, Pitch 1.27mm, IPC High Density)
pins: 1 VCCO (out), 2 VBATT1 (in), 3 TOL (in), 4 GND (power), 5 ~{CE} (in), 6 ~{CEO} (out), 7 VBATT2 (in), 8 VCCI (power)

## MXD1210CWE
designator U?
Nonvolatile RAM Controller; Published: 16-Jan-2001; LatestRevisionDate: 13-Apr-2006; LatestRevisionNote: IPC-7351 Footprint Added.; DatasheetVersion: Mar-1996; PackageReference: WSO16; Publisher: Altium Limited; PackageDescription: 16-Pin Small Outline Integrated Circuit 1.27 mm Pitch; Code_JEDEC: MS-013-AA; Code_IPC: SOIC127P1030-16; ComponentLink1Description: Manufacturer Link; ComponentLink1URL: http://www.maxim-ic.com/; ComponentLink2Description: Datasheet; ComponentLink2URL: http://pdfserv.maxim-ic.com/en/ds/MXD1210.pdf
footprint SO16L (SOIC, 16-Leads, Body 10.30x7.50mm, Pitch 1.27mm, IPC Medium Density)
pins: 1 NC, 2 VCCO (out), 3 NC, 4 VBATT1 (power), 5 NC, 6 TOL (in), 7 NC, 8 GND (power), 9 ~{CE} (in), 10 NC, 11 ~{CEO} (out), 12 NC, 13 VBATT2 (in), 14 NC, 15 VCCI (power), 16 NC

## NE555
designator U?
TIMER IC; Manufacturer Part Number: NE555DT; Manufacturer: STMicroelectronics; Frequency: 500kHz; Voltage - Supply: 4.5 V ~ 16 V; Current: 200mA; Supplier 1: Digi-Key; Supplier Part Number 1: 497-1962-2-ND; Supplier: Digi-Key; Category: Integrated Circuits (ICs); Supplier Part Number: 497-1962-2-ND; Package / Case: 8-SOIC (3.9mm Width); Packaging: Tape & Reel (TR); RoHS: RoHS Compliant; Operating Temperature: 0°C ~ 70°C; Count: -; Type: 555 Type, Timer/Oscillator (Single)
footprint SO8
footprint DIP8
pins: 1 GND, 2 TRIG, 3 OUT, 4 RST, 5 C, 6 TH, 7 DIS, 8 VCC

## NRF24L01
designator M?
footprint NRF24L01
footprint JP4-C2T (8 pins, dual row, straight, gold plating)
pins: 1 GND, 2 CE, 3 SCK, 4 MISO, 5 IRQ, 6 MOSI, 7 CSN, 8 VCC

## OHMITE0
designator P?, comment Tan nhiet
footprint OHMITE0_1 (HALF BRICK CONVERTER HEATSINK)
footprint OHMITE0_2 (HALF BRICK CONVERTER HEATSINK)
footprint OHMITE0_3 (HALF BRICK CONVERTER HEATSINK)
footprint OHMITE0_4 (HALF BRICK CONVERTER HEATSINK)
footprint OHMITE0_5 (HALF BRICK CONVERTER HEATSINK)

## OHMITE01
designator P?, comment Tan nhiet
footprint OHMITE1_1
footprint OHMITE1_2
footprint OHMITE1_3
pins: 0

## OHMITE02
designator P?, comment Tan nhiet
footprint OHMITE2_2
footprint OHMITE2_1
pins: M1, M2

## OP07
designator IC?
Single OA
footprint DIP8
footprint SO8
pins: 1 Vos, 2 IN- (in), 3 IN+ (in), 4 -V, 6 OUT (out), 7 +V, 8 Vos

## OP07CP
designator U?
Ultra-Low Offset Voltage Operational Amplifier; Note: Pin 5 is not connected.; Published: 8-Jun-2000; LatestRevisionDate: 04-Mar-2005; LatestRevisionNote: Stylized 3D Model Added.; DatasheetVersion: 1992; PackageReference: N-8_A; Publisher: Altium Limited; PackageDescription: DIP; 8 Leads; Row Spacing 7.62 mm; Pitch 2.54 mm; Code_JEDEC: MO-001-AN; ComponentLink1Description: Manufacturer Link; ComponentLink1URL: http://www.analog.com/en/prod/0,,759_786_OP07%2C00.html; ComponentLink2Description: Datasheet; ComponentLink2URL: http://www.analog.com/UploadedFiles/Data_Sheets/39161232478959OP07_c.pdf
footprint DIP8
footprint SO8 (SOIC, 8-Leads, Body 4.9x3.9mm, Pitch 1.27mm, IPC High Density)
pins: 1 VOSTRIM, 2 IN- (in), 3 IN+ (in), 4 V- (power), 5 NC, 6 OUT (out), 7 V+ (power), 8 VOSTRIM

## OP2177
designator U?
PRECISION OPAMP 1.3 MHz; Manufacturer: Analog Devices Inc; Manufacturer Part Number: OP2177ARZ-REEL; Slew Rate: 0.7 V/µs; Current - Supply: 400µA; Amplifier Type: General Purpose; Number of Circuits: 2; Current - Input Bias: 500pA; Voltage - Input Offset: 15µV; Gain Bandwidth Product: 1.3MHz; Current - Output / Channel: 10mA; Voltage - Supply, Single/Dual (±): 5 V ~ 36 V, ±2.5 V ~ 18 V; Supplier 1: Digi-Key; Supplier Part Number 1: OP2177ARZ-REEL-ND; Supplier: Digi-Key; RoHS: RoHS Compliant; Packaging: Tape & Reel (TR); Category: Integrated Circuits (ICs); Operating Temperature: -40°C ~ 125°C; Package / Case: 8-SOIC (3.9mm Width); Output Type: -; Supplier Part Number: OP2177ARZ-REEL-ND
footprint SO8 (SOIC, 8-Leads, Body 4.9x3.9mm, Pitch 1.27mm, IPC High Density)
footprint DIP8
part A pins: 4 (power), 5 (in), 6 (in), 7 OUT (out), 8 (power)
part B pins: 1 1 OUT (out), 2 1 IN- (in), 3 1 IN+ (in)

## OPTO
designator U?
Single Opto; Value: TLP5211
footprint OPTO (Opto hinh chu U)
pins: A "Anode", C "Collector", E "Emitter", K "Cathode"

## Opto Isolator
designator U?
4-Pin Phototransistor Optocoupler; Published: 24-Mar-1999; LatestRevisionDate: 04-Mar-2005; LatestRevisionNote: Sch pins 3 & 4 Swapped.; DatasheetDocument: Nov-2003; PackageReference: DIP-4; Publisher: Altium Limited
footprint DIP8
footprint SO8
pins: 1 K "Cathode", 2 A "Anode", 4 E "Emitter", 5 C "Collector"

## P82B715
designator U?
I2C BUS EXTENDER; Manufacturer: NXP Semiconductors; Manufacturer Part Number: P82B715TD,112; Voltage - Supply: 4.5 V ~ 12 V; Current - Supply: 22mA; Tx/Rx Type: I²C Logic; Delay Time: 250ns; Capacitance - Input: 3000pF; Supplier 1: Digi-Key; Supplier Part Number 1: 568-3981-5-ND; RoHS: RoHS Compliant; Package / Case: 8-SOIC (3.9mm Width); Packaging: Tube; Supplier: Digi-Key; Supplier Part Number: 568-3981-5-ND; Type: Bus Extender; Category: Integrated Circuits (ICs)
footprint SO8
footprint DIP8
pins: 2 XO (io), 3 XI (io), 4 GND (power), 6 YI (io), 7 YO (io), 8 VCC (power)

## PBSS4140DPN
designator Q?
40 V Low VCEsat NPN/PNP Transistors; Published: 17-Sep-2003; LatestRevisionDate: 12-Dec-2006; LatestRevisionNote: IPC-7351 Footprint Added.; DatasheetVersion: 13-Dec-2001; PackageVersion: May-2001; PackageReference: SOT457; Publisher: Altium Limited; PackageDescription: 6-Pin SOT-23 Package 0.95 mm Pitch, 2.8 mm Lead Span; Code_JEITA: SC-95; Code_IPC: SOT26A-6; ComponentLink1Description: Manufacturer Link; ComponentLink1URL: http://www.semiconductors.philips.com/; ComponentLink2Description: Datasheet; ComponentLink2URL: http://www.semiconductors.philips.com/acrobat/datasheets/PBSS4140DPN_1.pdf
footprint SOT457 (SOT23, 6-Leads, Body 2.9x1.5mm, Pitch 0.95mm, Lead Span 2.8mm, IPC High Density)
pins: 1 E1, 2 B1, 3 C2, 4 E2, 5 B2, 6 C1

## PC817
designator U?
Single Opto; Value: PC817
footprint DIP4
pins: 1 A "Anode", 2 K "Cathode", 3 E "Emitter", 4 C "Collector"

## PC900V
designator U?, comment PC900V0NSZXF
OPTOISOLATOR; SMD; Digital Output, Normal OFF  Operation; Transistor Type: NPN; Mounting Technology: Surface Mount; Status: Unreleased; Category: Transistor-Bipolar
footprint SO6
pins: 1 A "Anode", 2 K "Cathode", 4 Vo "Collector", 5 GND "Emitter", 6 Vcc "Collector"

## PCA9515
designator U4
I2 BUS ISOLATOR; Supplier 1: Digi-Key; Supplier Part Number 1: 568-1031-6-ND
footprint SO8 (SOIC, 8-Leads, Body 4.9x3.9mm, Pitch 1.27mm, IPC High Density)
footprint DIP8
pins: 2 C0, 3 D0, 4 GND, 5 EN, 6 D1, 7 C1, 8 VCC

## PCA9534
designator U?
OCTAL PUSH PULL DRIVER I2C
footprint DIP16
footprint SO16L (SOIC, 16-Leads, Body 10.30x7.50mm, Pitch 1.27mm, IPC Medium Density)
pins: 1 A0, 2 A1, 3 A2, 4 IO0, 5 IO1, 6 IO2, 7 IO3, 8 GND, 9 IO4, 10 IO5, 11 IO6, 12 IO7, 13 INT, 14 SCL, 15 SDA, 16 VCC

## PCF8574
designator U?
I2C PORT EXPANDER; Manufacturer Part Number: PCF8574T/3,512; Manufacturer: NXP Semiconductors; Includes: POR; Interface: I²C; Interrupt Output: Yes; Number of I /O: 8; Voltage - Supply: 2.5 V ~ 6 V; Frequency - Clock: 100KHz; Supplier 1: Digi-Key; Supplier Part Number 1: 568-1076-5-ND; Package / Case: 16-SOIC (7.5mm Width); Category: Integrated Circuits (ICs); Supplier Part Number: 568-1076-5-ND; Operating Temperature: -40°C ~ 85°C; Packaging: Tube; RoHS: RoHS Compliant; Supplier: Digi-Key
footprint DIP16
footprint SO16L (SOIC, 16-Leads, Body 10.30x7.50mm, Pitch 1.27mm, IPC Medium Density)
pins: 1 A0 (in), 2 A1 (in), 3 A2 (in), 4 IO0 (io), 5 IO1 (io), 6 IO2 (io), 7 IO3 (io), 8 GND (oc), 9 IO4 (io), 10 IO5 (io), 11 IO6 (io), 12 IO7 (io), 13 INT (oc), 14 SCL (oc), 15 SDA (oc), 16 VCC

## PCF8583
designator U?
I2C REAL TIME CLOCK; Manufacturer Part Number: PCF8583T/5,518; Manufacturer: NXP Semiconductors; Time Format: HH:MM:SS (12/24 hr); Memory Size: 240B; Voltage - Supply: 1 V ~ 6 V; Date Format: YY-MM-DD; Interface: I²C, 2-Wire Serial; Supplier 1: Digi-Key; Supplier Part Number 1: 568-1085-2-ND; Supplier: Digi-Key; Supplier Part Number: 568-1085-2-ND; Operating Temperature: -40°C ~ 85°C; Packaging: Tape & Reel (TR); Type: Clock/Calendar/NVSRAM; Package / Case: 8-SOIC (7.5mm Width); Category: Integrated Circuits (ICs); RoHS: RoHS Compliant
footprint SO8L (SOIC, 8-Leads, Body 7.50x7.50mm, Pitch 1.27mm, IPC Medium Density)
footprint DIP8
pins: 1 OSCI, 2 OSCO, 3 A0, 4 GND, 5 SDA, 6 SCL, 7 ~{INT}, 8 VCC

## PIC12F508
designator U?
8-bit Flash Microcontroller, 512 (x12-Bit words) Program Memory, 25 Bytes Data Memory, 8-Pin PDIP, Extended Temperature; Published: 29-Jan-2009; LatestRevisionDate: 02-Dec-2009; LatestRevisionNote: Updated to datasheet revision revE, Aug-2009; DatasheetVersion: revE, Aug-2009; PackageVersion: revBB, Aug-2009; PackageReference: PDIP300-P8; Publisher: Altium Limited; PackageDescription: 8-Lead Plastic Dual In-Line (P) - 300 mil Body [PDIP]; Supplier 1: Digi-Key; Supplier Part Number 1: PIC12F508-E/P-ND; Supplier 2: Farnell; Supplier Part Number 2: 1816016; Code_JEDEC: MS-001; ComponentLink1Description: Datasheet; ComponentLink1URL: http://ww1.microchip.com/downloads/en/DeviceDoc/41236E.pdf; ComponentLink2Description: Packaging Specification; ComponentLink2URL: http://www.microchip.com/stellent/groups/techpub_sg/documents/packagingspec/en012702.pdf; ComponentLink3Description: Microchip.com Home; ComponentLink3URL: http://www.microchip.com/
footprint DIP8 (DIP, 8-Leads, Row Spacing 7.62mm, Pitch 2.54mm, Body 9.91x6.73mm)
footprint SO8 (SOIC, 8-Leads, Body 4.9x3.9mm, Pitch 1.27mm, IPC High Density)
footprint TSOP8 (TSOP, 8-Leads, Body 3x3mm, Pitch 0.65mm, IPC High Density)
pins: 1 VDD (power), 2 GP5/OSC1/CLKIN (io), 3 GP4/OSC2 (io), 4 GP3/~{MCLR}/VPP (io), 5 GP2/T0CKI (io), 6 GP1/ICSPCLK (io), 7 GP0/ICSPDAT (io), 8 VSS (power)

## PIC12F508-E/MC
designator U?
8-bit Flash Microcontroller, 512 (x12-Bit words) Program Memory, 25 Bytes Data Memory, 8-Pin DFN, Extended Temperature; Published: 29-Jan-2009; LatestRevisionDate: 02-Dec-2009; LatestRevisionNote: Updated to datasheet revision revE, Aug-2009; DatasheetVersion: revE, Aug-2009; PackageVersion: revBB, Aug-2009; PackageReference: DFN-MC8; Publisher: Altium Limited; PackageDescription: 8-Lead Plastic Dual Flat, No Lead Package (MC) - 2x3x0.9mm Body [DFN]; Supplier 1: Digi-Key; Supplier Part Number 1: PIC12F508-E/MC-ND; ComponentLink1Description: Datasheet; ComponentLink1URL: http://ww1.microchip.com/downloads/en/DeviceDoc/41236E.pdf; ComponentLink2Description: Packaging Specification; ComponentLink2URL: http://www.microchip.com/stellent/groups/techpub_sg/documents/packagingspec/en012702.pdf; ComponentLink3Description: Microchip.com Home; ComponentLink3URL: http://www.microchip.com/
footprint DFN8 (SON, 8-Leads, Body 2x3mm, Pitch 0.5mm, Microchip Recommended)
pins: 1 VDD (power), 2 GP5/OSC1/CLKIN (io), 3 GP4/OSC2 (io), 4 GP3/~{MCLR}/VPP (io), 5 GP2/T0CKI (io), 6 GP1/ICSPCLK (io), 7 GP0/ICSPDAT (io), 8 VSS (power), 9 Thermal Pad

## PIC12F683
designator U?
Supplier 1: Mouser
footprint SO8
footprint DIP8
pins: 1 VDD (power), 2 GP5/T1CKI/OSC1/CLKIN (io), 3 GP4/AN3/~{T1G}/OSC2/CLKOUT (io), 4 GP3/~{MCLR}/VPP (io), 5 GP2/AN2/T0CKI/INT/COUT/CCP1 (io), 6 GP1/AN1/CIN-/VREF/ICSPCLK (io), 7 GP0/AN0/CIN+/ICSPDAT/ULPWU (io), 8 VSS (power)

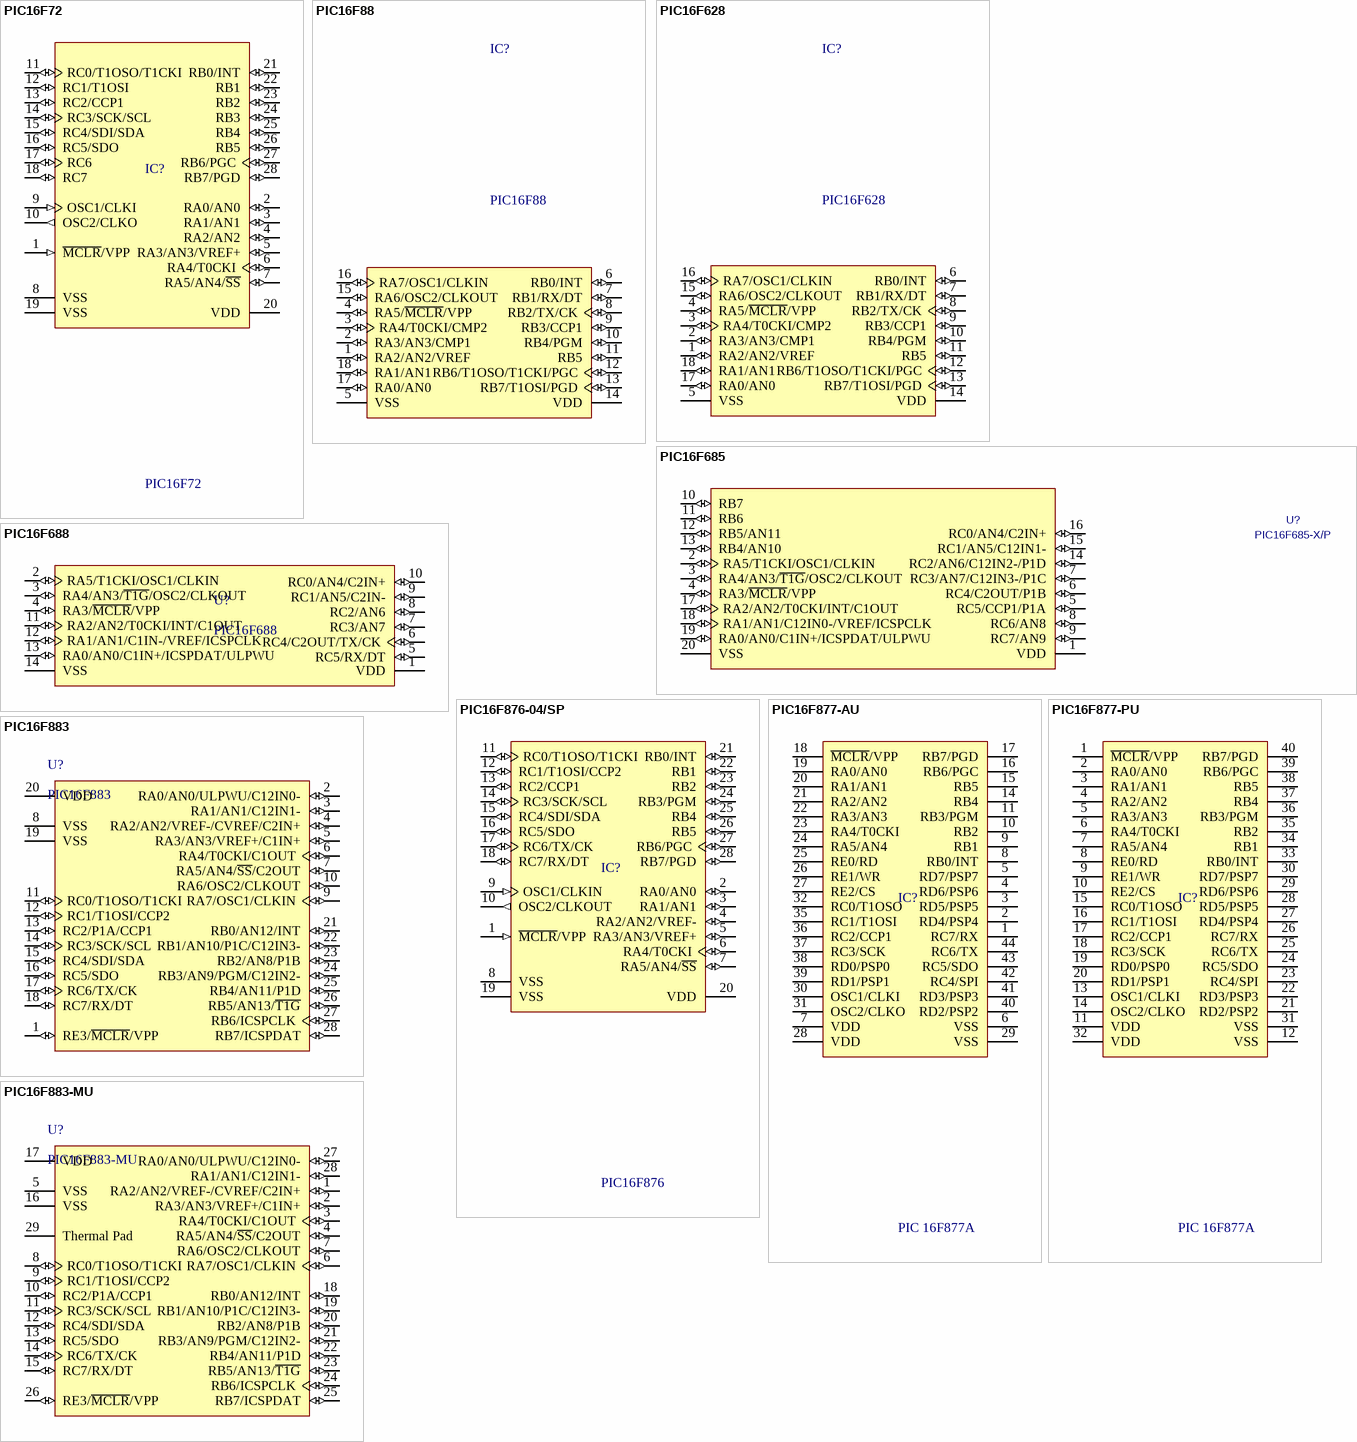
[diagram p36: symbols PIC16F72 to PIC16F883-MU]

## PIC16F72
designator IC?
footprint DIP28 (28 PIN, W 300mil, Pin to pin 100mil)
footprint SO28 (SOIC, 28-Leads, Body 17.80x7.50mm, Pitch 1.27mm, IPC Medium Density)
pins: 1 ~{MCLR}/VPP (in), 2 RA0/AN0 (io), 3 RA1/AN1 (io), 4 RA2/AN2 (io), 5 RA3/AN3/VREF+ (io), 6 RA4/T0CKI (io), 7 RA5/AN4/~{SS} (io), 8 VSS (power), 9 OSC1/CLKI (in), 10 OSC2/CLKO (out), 11 RC0/T1OSO/T1CKI (io), 12 RC1/T1OSI (io), 13 RC2/CCP1 (io), 14 RC3/SCK/SCL (io), 15 RC4/SDI/SDA (io), 16 RC5/SDO (io), 17 RC6 (io), 18 RC7 (io), 19 VSS (power), 20 VDD (power), 21 RB0/INT (io), 22 RB1 (io), 23 RB2 (io), 24 RB3 (io), 25 RB4 (io), 26 RB5 (io), 27 RB6/PGC (io), 28 RB7/PGD (io)

## PIC16F88
designator IC?
PIC 16F88; Value: DIP18; Value: 16F88
footprint DIP18 (DIP; 18 Leads; Row Spacing 7.62 mm; Pitch 2.54 mm)
footprint SO18 (SOIC, 18-Leads, Body 11.6x7.5mm, Pitch 1.27mm, IPC High Density)
pins: 1 RA2/AN2/VREF (io), 2 RA3/AN3/CMP1 (io), 3 RA4/T0CKI/CMP2 (io), 4 RA5/~{MCLR}/VPP (io), 5 VSS (power), 6 RB0/INT (io), 7 RB1/RX/DT (io), 8 RB2/TX/CK (io), 9 RB3/CCP1 (io), 10 RB4/PGM (io), 11 RB5 (io), 12 RB6/T1OSO/T1CKI/PGC (io), 13 RB7/T1OSI/PGD (io), 14 VDD (power), 15 RA6/OSC2/CLKOUT (io), 16 RA7/OSC1/CLKIN (io), 17 RA0/AN0 (io), 18 RA1/AN1 (io)

## PIC16F628
designator IC?
PIC 16F628; Value: 16F88; Value: DIP18
footprint DIP18 (DIP; 18 Leads; Row Spacing 7.62 mm; Pitch 2.54 mm)
footprint SO18 (SOIC, 18-Leads, Body 11.50x7.50mm, Pitch 1.27mm, IPC Medium Density)
pins: 1 RA2/AN2/VREF (io), 2 RA3/AN3/CMP1 (io), 3 RA4/T0CKI/CMP2 (io), 4 RA5/~{MCLR}/VPP (io), 5 VSS (power), 6 RB0/INT (io), 7 RB1/RX/DT (io), 8 RB2/TX/CK (io), 9 RB3/CCP1 (io), 10 RB4/PGM (io), 11 RB5 (io), 12 RB6/T1OSO/T1CKI/PGC (io), 13 RB7/T1OSI/PGD (io), 14 VDD (power), 15 RA6/OSC2/CLKOUT (io), 16 RA7/OSC1/CLKIN (io), 17 RA0/AN0 (io), 18 RA1/AN1 (io)

## PIC16F685
designator U?, comment PIC16F685-X/P
Value: PIC16F685-X/P
footprint DIP20 (DIP 20, 20 PIN, W 300mil, Pin to pin 100mil)
footprint SO20 (SOIC, 20-Leads, Body 12.60x7.50mm, Pitch 1.27mm, IPC Medium Density)
footprint TSOP20 (TSOP, 20-Leads, Body 7.20x5.30mm, Pitch 0.65mm, IPC High Density)
pins: 1 VDD (power), 2 RA5/T1CKI/OSC1/CLKIN (io), 3 RA4/AN3/~{T1G}/OSC2/CLKOUT (io), 4 RA3/~{MCLR}/VPP (io), 5 RC5/CCP1/P1A (io), 6 RC4/C2OUT/P1B (io), 7 RC3/AN7/C12IN3-/P1C (io), 8 RC6/AN8 (io), 9 RC7/AN9 (io), 10 RB7 (io), 11 RB6 (io), 12 RB5/AN11 (io), 13 RB4/AN10 (io), 14 RC2/AN6/C12IN2-/P1D (io), 15 RC1/AN5/C12IN1- (io), 16 RC0/AN4/C2IN+ (io), 17 RA2/AN2/T0CKI/INT/C1OUT (io), 18 RA1/AN1/C12IN0-/VREF/ICSPCLK (io), 19 RA0/AN0/C1IN+/ICSPDAT/ULPWU (io), 20 VSS (power)

## PIC16F688
designator U?
FLASH-Based 8-Bit CMOS Microcontroller, 10-Bit A/D, 4K (x14-Bit words) FLASH, 256 Bytes SRAM, 14-Pin PDIP, Extended Temperature; Published: 11-Oct-2004; LatestRevisionDate: 29-Jan-2009; LatestRevisionNote: Sch. layout revised. 3D Model Removed.; DatasheetVersion: revD, Feb-2007; PackageVersion: revBB, Aug-2009; PackageReference: PDIP300-P14; Publisher: Altium Limited; PackageDescription: 14-Lead Plastic Dual In-Line (P) - 300 mil Body [PDIP]; Supplier 1: Digi-Key; Supplier Part Number 1: PIC16F688-E/P-ND; ComponentLink1Description: Datasheet; ComponentLink1URL: http://ww1.microchip.com/downloads/en/DeviceDoc/41203D.pdf; ComponentLink2Description: Packaging Specification; ComponentLink2URL: http://www.microchip.com/stellent/groups/techpub_sg/documents/packagingspec/en012702.pdf; ComponentLink3Description: Microchip.com Home; ComponentLink3URL: http://www.microchip.com/
footprint DIP14 (DIP, 14-Leads, Row Spacing 7.62mm, Pitch 2.54mm, Body 19.2x6.6mm)
footprint SO14 (SOIC, 14-Leads, Body 8.60x3.90mm, Pitch 1.27mm, IPC Medium Density)
footprint TSSOP14 (TSSOP, 14-Leads, Body 5.00x4.40mm, Pitch 0.65mm, IPC High Density)
pins: 1 VDD (power), 2 RA5/T1CKI/OSC1/CLKIN (io), 3 RA4/AN3/~{T1G}/OSC2/CLKOUT (io), 4 RA3/~{MCLR}/VPP (io), 5 RC5/RX/DT (io), 6 RC4/C2OUT/TX/CK (io), 7 RC3/AN7 (io), 8 RC2/AN6 (io), 9 RC1/AN5/C2IN- (io), 10 RC0/AN4/C2IN+ (io), 11 RA2/AN2/T0CKI/INT/C1OUT (io), 12 RA1/AN1/C1IN-/VREF/ICSPCLK (io), 13 RA0/AN0/C1IN+/ICSPDAT/ULPWU (io), 14 VSS (power)

## PIC16F876-04/SP
designator IC?, comment PIC16F876
8-Bit CMOS FLASH Microcontroller, 8K x 14 words FLASH, 368 x 8 Bytes RAM, 4 MHz, 28-Pin PDIP 300mil, 4 to 5.5V VDD Range, Commercial Temperature
footprint DIP28 (28 PIN, W 300mil, Pin to pin 100mil)
footprint SO28 (SOIC, 28-Leads, Body 18.00x7.50mm, Pitch 1.27mm, IPC Medium Density)
pins: 1 ~{MCLR}/VPP (in), 2 RA0/AN0 (io), 3 RA1/AN1 (io), 4 RA2/AN2/VREF- (io), 5 RA3/AN3/VREF+ (io), 6 RA4/T0CKI (io), 7 RA5/AN4/~{SS} (io), 8 VSS (power), 9 OSC1/CLKIN (in), 10 OSC2/CLKOUT (out), 11 RC0/T1OSO/T1CKI (io), 12 RC1/T1OSI/CCP2 (io), 13 RC2/CCP1 (io), 14 RC3/SCK/SCL (io), 15 RC4/SDI/SDA (io), 16 RC5/SDO (io), 17 RC6/TX/CK (io), 18 RC7/RX/DT (io), 19 VSS (power), 20 VDD (power), 21 RB0/INT (io), 22 RB1 (io), 23 RB2 (io), 24 RB3/PGM (io), 25 RB4 (io), 26 RB5 (io), 27 RB6/PGC (io), 28 RB7/PGD (io)

## PIC16F877-AU
designator IC?, comment PIC 16F877A
8K FLASH, 368B RAM, 256B EFROM; Value: DIP 40; Value: PIC16F877A; Copyright by: VanDungEvn
footprint TQFP44 (12x12mm)
pins: 1 RC7/RX, 2 RD4/PSP4, 3 RD5/PSP5, 4 RD6/PSP6, 5 RD7/PSP7, 6 VSS, 7 VDD, 8 RB0/INT, 9 RB1, 10 RB2, 11 RB3/PGM, 14 RB4, 15 RB5, 16 RB6/PGC, 17 RB7/PGD, 18 ~{MCLR}/VPP, 19 RA0/AN0, 20 RA1/AN1, 21 RA2/AN2, 22 RA3/AN3, 23 RA4/T0CKI, 24 RA5/AN4, 25 RE0/RD, 26 RE1/WR, 27 RE2/CS, 28 VDD, 29 VSS, 30 OSC1/CLKI, 31 OSC2/CLKO, 32 RC0/T1OSO, 35 RC1/T1OSI, 36 RC2/CCP1, 37 RC3/SCK, 38 RD0/PSP0, 39 RD1/PSP1, 40 RD2/PSP2, 41 RD3/PSP3, 42 RC4/SPI, 43 RC5/SDO, 44 RC6/TX

## PIC16F877-PU
designator IC?, comment PIC 16F877A
8K FLASH, 368B RAM, 256B EFROM; Value: DIP 40; Value: PIC16F877A; Copyright by: VanDungEvn
footprint DIP40/W0.6 (40 PIN, W 600mil, Pin to pin 100mil)
footprint DIP40_Socket (40 PIN, W 900 mil , L 2600 mil , Push Pro FOR Chip)
pins: 1 ~{MCLR}/VPP, 2 RA0/AN0, 3 RA1/AN1, 4 RA2/AN2, 5 RA3/AN3, 6 RA4/T0CKI, 7 RA5/AN4, 8 RE0/RD, 9 RE1/WR, 10 RE2/CS, 11 VDD, 12 VSS, 13 OSC1/CLKI, 14 OSC2/CLKO, 15 RC0/T1OSO, 16 RC1/T1OSI, 17 RC2/CCP1, 18 RC3/SCK, 19 RD0/PSP0, 20 RD1/PSP1, 21 RD2/PSP2, 22 RD3/PSP3, 23 RC4/SPI, 24 RC5/SDO, 25 RC6/TX, 26 RC7/RX, 27 RD4/PSP4, 28 RD5/PSP5, 29 RD6/PSP6, 30 RD7/PSP7, 31 VSS, 32 VDD, 33 RB0/INT, 34 RB1, 35 RB2, 36 RB3/PGM, 37 RB4, 38 RB5, 39 RB6/PGC, 40 RB7/PGD